# Altium footprint library SOP.PcbLib: 43 footprints (part 1 of 3)
Each footprint in its own frame and in the unit in brackets; x right, y up, seen from the top. Pads: shape width x height; smd on the part's side, far side on the other; paste and mask are expansions set on the pad; w line width, h text height; cw(c..) or ccw(c..) is an arc to the next point about the centre after c.
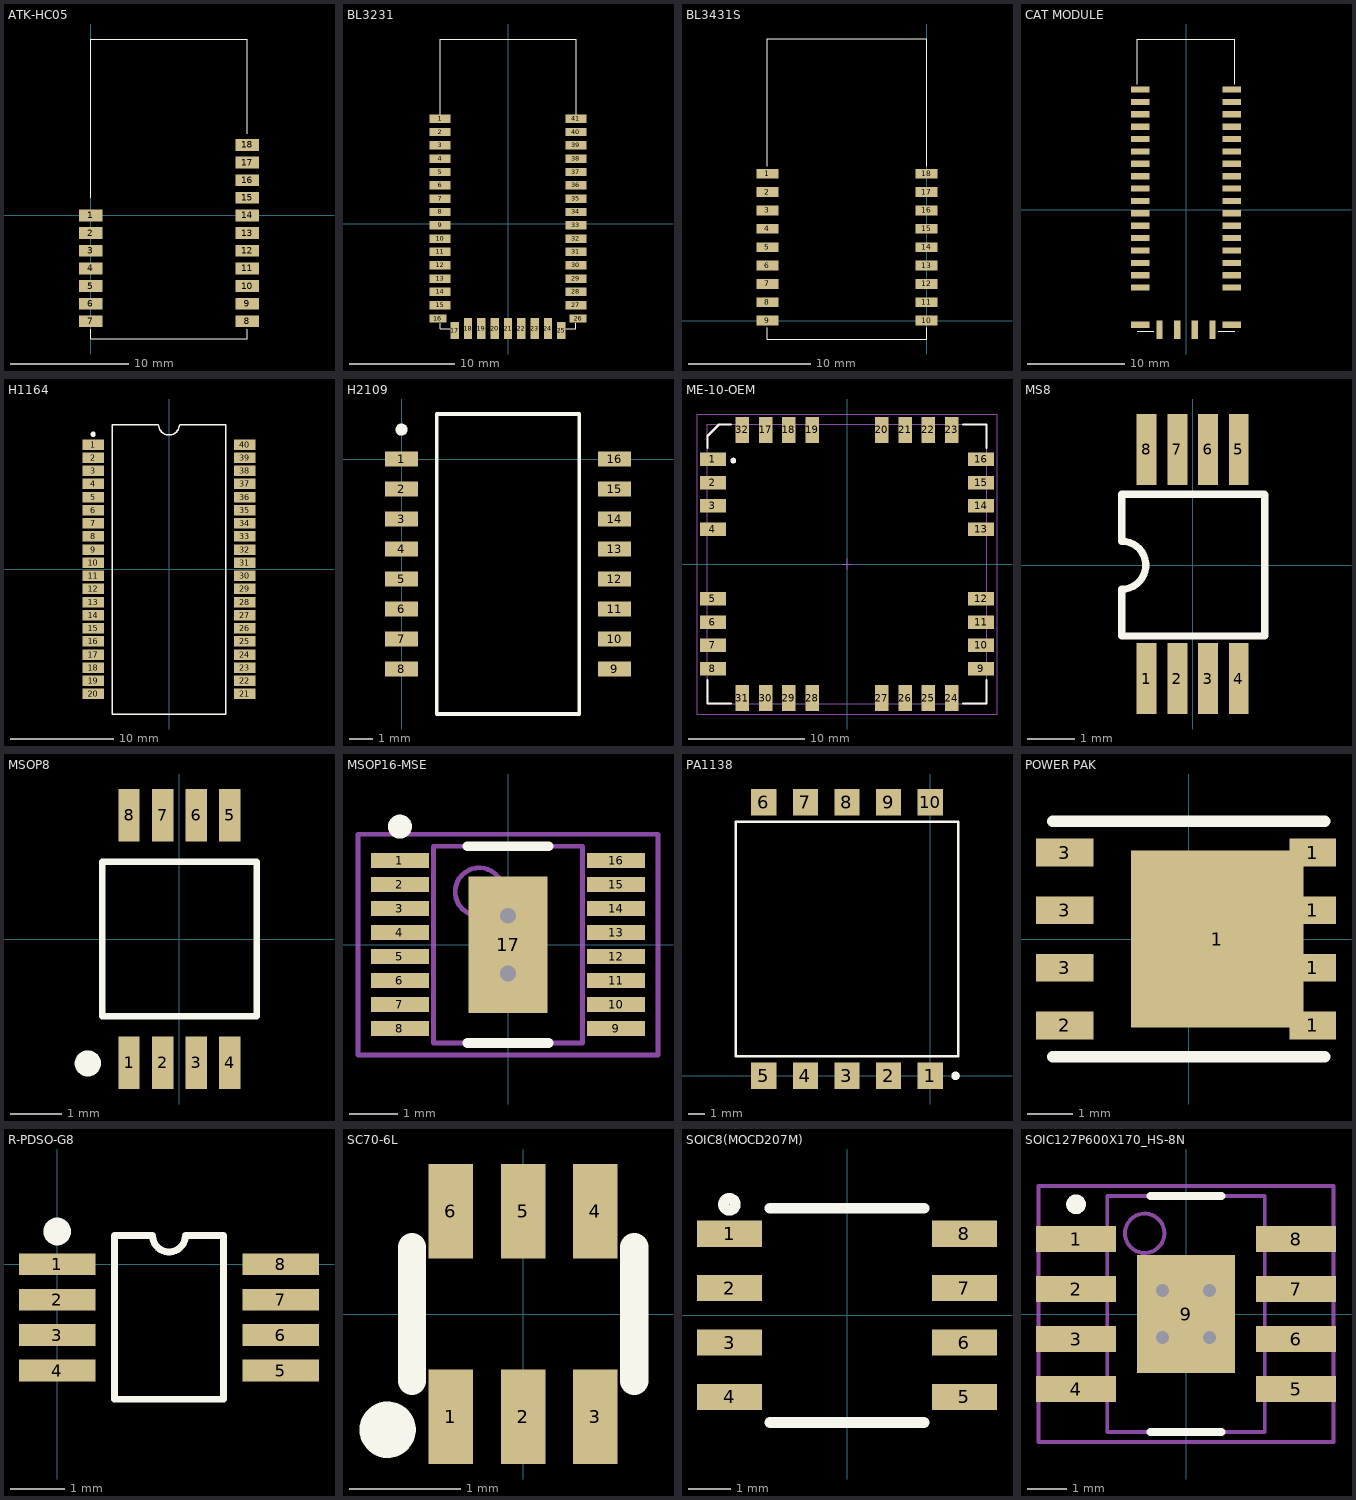
[diagram p0: the footprints below, top view; thin cyan lines are the x and y axes]

## ATK-HC05 [mm] "蓝牙转串口模块"
height 2
pads (18):
  rect 2x1 smd: 1(0,0) 2(0,-1.5) 3(0,-3) 4(0,-4.5) 5(0,-6) 6(0,-7.5) 7(0,-9) 8(13.3,-9) 9(13.3,-7.5) 10(13.3,-6) 11(13.3,-4.5) 12(13.3,-3) 13(13.3,-1.5) 14(13.3,0) 15(13.3,1.5) 16(13.3,3) 17(13.3,4.5) 18(13.3,6)
Top Overlay:
  lines w0.102: 0,-9.652 0,-10.5 13.3,-10.5 13.3,-9.652 ; 0,1.5 0,15 13.3,15 13.3,6.95

## BL3231 [mm] "蓝牙模块"
height 2
pads (41):
  rect 2x0.8 smd: 1(-6.48,10) 2(-6.48,8.73) 3(-6.48,7.46) 4(-6.48,6.19) 5(-6.48,4.92) 6(-6.48,3.65) 7(-6.48,2.38) 8(-6.48,1.11) 9(-6.48,-0.16) 10(-6.48,-1.43) 11(-6.48,-2.7) 12(-6.48,-3.97) 13(-6.48,-5.24) 14(-6.48,-6.51) 15(-6.48,-7.78) 27(6.48,-7.78) 28(6.48,-6.51) 29(6.48,-5.24) 30(6.48,-3.97) 31(6.48,-2.7) 32(6.48,-1.43) 33(6.48,-0.16) 34(6.48,1.11) 35(6.48,2.38) 36(6.48,3.65) 37(6.48,4.92) 38(6.48,6.19) 39(6.48,7.46) 40(6.48,8.73) 41(6.48,10)
  rect 1.6x0.8 smd: 16(-6.68,-9.05) 26(6.68,-9.05)
  rect 0.8x1.6 smd: 17(-5.08,-10.2) 25(5.08,-10.2)
  rect 0.8x2 smd: 18(-3.81,-10) 19(-2.54,-10) 20(-1.27,-10) 21(0,-10) 22(1.27,-10) 23(2.54,-10) 24(3.81,-10)
Top Overlay:
  lines w0.102: -6.48,-9.5 -6.48,-10 -5.5,-10 ; -6.48,10.4 -6.48,17.6 6.52,17.6 6.52,10.4 ; 5.5,-10 6.48,-10 6.48,-9.5

## BL3431S [mm] "蓝牙模块"
height 2
pads (18):
  rect 1.8x0.8 smd: 1(-13,12) 2(-13,10.5) 3(-13,9) 4(-13,7.5) 5(-13,6) 6(-13,4.5) 7(-13,3) 8(-13,1.5) 9(-13,0) 10(0,0) 11(0,1.5) 12(0,3) 13(0,4.5) 14(0,6) 15(0,7.5) 16(0,9) 17(0,10.5) 18(0,12)
Top Overlay:
  lines w0.102: -13,-0.6 -13,-1.5 0,-1.5 0,-0.6 ; -13,12.6 -13,23 0,23 0,12.6

## CAT MODULE [mil] "FOR ISS CAT MODULE"
height 78.74
pads (40):
  rect 75x25 smd: 1(184.5,-315) 2(184.5,-265) 3(184.5,-215) 4(184.5,-165) 5(184.5,-115) 6(184.5,-65) 7(184.5,-15) 8(184.5,35) 9(184.5,85) 10(184.5,135) 11(184.5,185) 12(184.5,235) 13(184.5,285) 14(184.5,335) 15(184.5,385) 16(184.5,435) 17(184.5,485) 18(-184.5,485) 19(-184.5,435) 20(-184.5,385) 21(-184.5,335) 22(-184.5,285) 23(-184.5,235) 24(-184.5,185) 25(-184.5,135) 26(-184.5,85) 27(-184.5,35) 28(-184.5,-15) 29(-184.5,-65) 30(-184.5,-115) 31(-184.5,-165) 32(-184.5,-215) 33(-184.5,-265) 34(-184.5,-315) 35(-184.5,-465) 40(184.5,-465)
  rect 25x75 smd: 36(-106.5,-485) 37(-35.5,-485) 38(35.5,-485) 39(106.5,-485)
Top Overlay:
  lines w5: -197,-491 -131,-491 ; -197,507 -197,689 197,689 197,507 ; 131,-491 197,-491

## H1164 [mil]
height 280
pads (40):
  rect 83x40 smd: 1(-288.5,475) 2(-288.5,425) 3(-288.5,375) 4(-288.5,325) 5(-288.5,275) 6(-288.5,225) 7(-288.5,175) 8(-288.5,125) 9(-288.5,75) 10(-288.5,25) 11(-288.5,-25) 12(-288.5,-75) 13(-288.5,-125) 14(-288.5,-175) 15(-288.5,-225) 16(-288.5,-275) 17(-288.5,-325) 18(-288.5,-375) 19(-288.5,-425) 20(-288.5,-475) 21(288.5,-475) 22(288.5,-425) 23(288.5,-375) 24(288.5,-325) 25(288.5,-275) 26(288.5,-225) 27(288.5,-175) 28(288.5,-125) 29(288.5,-75) 30(288.5,-25) 31(288.5,25) 32(288.5,75) 33(288.5,125) 34(288.5,175) 35(288.5,225) 36(288.5,275) 37(288.5,325) 38(288.5,375) 39(288.5,425) 40(288.5,475)
Top Overlay:
  circle w10: c-289,514 r5
  lines w5: -217,-551.18 217,-551.18 217,551.18 40,551.18 cw(c0,551.18) -40,551.18 -217,551.18 -217,-551.18

## H2109 [mil]
pads (16):
  rect 55x25 smd: 1(0,0) 2(0,-50) 3(0,-100) 4(0,-150) 5(0,-200) 6(0,-250) 7(0,-300) 8(0,-350) 9(355,-350) 10(355,-300) 11(355,-250) 12(355,-200) 13(355,-150) 14(355,-100) 15(355,-50) 16(355,0)
Top Overlay:
  circle w10: c0,49 r5
  lines w6: 58.5,-425 58.5,75 296.5,75 296.5,-425 58.5,-425
3D body: height 214.57, standoff 0, extent 60,-424 297,75

## ME-10-OEM [mm] "惯性导航模块"
height 4
pads (32):
  rect 2.25x1.15 smd: 1(-11.525,9) 2(-11.525,7) 3(-11.525,5) 4(-11.525,3) 5(-11.525,-3) 6(-11.525,-5) 7(-11.525,-7) 8(-11.525,-9) 9(11.525,-9) 10(11.525,-7) 11(11.525,-5) 12(11.525,-3) 13(11.525,3) 14(11.525,5) 15(11.525,7) 16(11.525,9)
  rect 1.15x2.25 smd: 17(-7,11.525) 18(-5,11.525) 19(-3,11.525) 20(3,11.525) 21(5,11.525) 22(7,11.525) 23(9,11.525) 24(9,-11.525) 25(7,-11.525) 26(5,-11.525) 27(3,-11.525) 28(-3,-11.525) 29(-5,-11.525) 30(-7,-11.525) 31(-9,-11.525) 32(-9,11.525)
Top Overlay:
  circle w0.25: c-9.777,8.89 r0.125
  lines w0.2: -12,-9.975 -12,-12 -9.975,-12 ; -12,9.975 -12,11 -11,12 -9.975,12 ; 9.975,-12 12,-12 12,-9.975 ; 9.975,12 12,12 12,9.975
Mechanical 13:
  lines w0.1: -12,-12 -12,12 12,12 12,-12 -12,-12
Mechanical 15:
  lines w0.1: -0.5,0 0.5,0 ; 0,-0.5 0,0.5 ; -12.9,-12.9 -12.9,12.9 12.9,12.9 12.9,-12.9 -12.9,-12.9
3D body: height 4, standoff 0, extent -12,-12 12,12

## MS8 [mm] "FOR LINEAR 0.65MM PITCH WIDE 3MM"
height 1.1
pads (8):
  rect 0.42x1.5 smd: 1(-0.975,-2.4) 2(-0.325,-2.4) 3(0.325,-2.4) 4(0.975,-2.4) 5(0.975,2.45) 6(0.325,2.45) 7(-0.325,2.45) 8(-0.975,2.45)
Top Overlay:
  lines w0.152: -1.5,-1.5 -1.5,-0.508 ccw(c-1.5,0) -1.5,0.508 -1.5,1.5 1.523,1.5 1.524,1.499 1.524,-1.5 -1.5,-1.5

## MSOP8 [mm]
pads (8):
  rect 0.41x1.02 smd: 1(-0.975,-2.4) 2(-0.325,-2.4) 3(0.325,-2.4) 4(0.975,-2.4) 5(0.975,2.4) 6(0.325,2.4) 7(-0.325,2.4) 8(-0.975,2.4)
Top Overlay:
  circle w0.254: c-1.778,-2.413 r0.127
  lines w0.127: -1.5,-1.5 1.5,-1.5 1.5,1.5 -1.5,1.5 -1.5,-1.5

## MSOP16-MSE [mm] "LINEAR MSE PACKAGE"
height 1.1
pads (17):
  rect 1.2x0.315 smd: 1(-2.25,1.75) 2(-2.25,1.25) 3(-2.25,0.75) 4(-2.25,0.25) 5(-2.25,-0.25) 6(-2.25,-0.75) 7(-2.25,-1.25) 8(-2.25,-1.75) 9(2.25,-1.75) 10(2.25,-1.25) 11(2.25,-0.75) 12(2.25,-0.25) 13(2.25,0.25) 14(2.25,0.75) 15(2.25,1.25) 16(2.25,1.75)
  rect 1.651x2.845 smd: 17(0,0)
via 0,-0.6 diameter 0.66 hole 0.33
via 0,0.6 diameter 0.66 hole 0.33
Top Overlay:
  circle w0.25: c-2.25,2.457 r0.125
  lines w0.2: -0.85,-2.05 0.85,-2.05 ; -0.85,2.05 0.85,2.05
Mechanical 13:
  circle w0.1: c-0.6,1.1 r0.5
  lines w0.1: -1.55,-2.05 1.55,-2.05 1.55,2.05 -1.55,2.05 -1.55,-2.05
Mechanical 15:
  lines w0.1: -0.5,0 0.5,0 ; 0,-0.5 0,0.5 ; -3.125,-2.3 3.125,-2.3 3.125,2.3 -3.125,2.3 -3.125,-2.3
3D body: height 1.1, standoff 0.18, extent -1.55,-2.05 1.55,2.05

## PA1138 [mm]
height 12.32
pads (10):
  rect 1.52x1.585 smd: 1(0,0) 2(-2.5,0) 3(-5,0) 4(-7.5,0) 5(-10,0) 6(-10,16.445) 7(-7.5,16.445) 8(-5,16.445) 9(-2.5,16.445) 10(0,16.445)
Top Overlay:
  circle w0.254: c1.524,0 r0.127
  lines w0.152: -11.68,1.172 1.68,1.172 1.68,15.272 -11.68,15.272 -11.68,1.172

## POWER PAK [mm] "SO-8"
height 1
pads (9):
  rect 3.81x3.91 smd: 1(0.627,0)
  rect 1.02x0.61 smd: 1(2.733,-1.905) 1(2.733,-0.635) 1(2.733,0.635) 1(2.733,1.905)
  rect 1.27x0.61 smd: 2(-2.733,-1.905) 3(-2.733,-0.635) 3(-2.733,0.635) 3(-2.733,1.905)
Top Overlay:
  lines w0.254: -3,-2.6 3,-2.6 ; -3,2.6 3,2.6

## R-PDSO-G8 [mm] "FOR TI's DCT"
height 1.3
pads (8):
  rect 1.4x0.4 smd: 1(0,0) 2(0,-0.65) 3(0,-1.3) 4(0,-1.95) 5(4.1,-1.95) 6(4.1,-1.3) 7(4.1,-0.65) 8(4.1,0)
Top Overlay:
  circle w0.254: c0,0.6 r0.127
  lines w0.127: 1.05,-2.475 1.05,0.525 1.75,0.525 ccw(c2.05,0.525) 2.35,0.525 3.05,0.525 3.05,-2.475 1.05,-2.475

## SC70-6L [mm]
height 1.1
pads (6):
  rect 0.4x0.85 smd: 1(-0.65,-0.925) 2(0,-0.925) 3(0.65,-0.925) 4(0.65,0.925) 5(0,0.925) 6(-0.65,0.925)
Top Overlay:
  circle w0.254: c-1.219,-1.041 r0.127
  lines w0.254: -1,-0.6 -1,0.6 ; 1,-0.6 1,0.6

## SOIC8(MOCD207M) [mm]
height 3.63
pads (8):
  rect 1.52x0.61 smd: 1(-2.74,1.905) 2(-2.74,0.635) 3(-2.74,-0.635) 4(-2.74,-1.905) 5(2.74,-1.905) 6(2.74,-0.635) 7(2.74,0.635) 8(2.74,1.905)
Top Overlay:
  circle w0.254: c-2.743,2.591 r0.137
  lines w0.254: -1.8,-2.5 1.8,-2.5 ; -1.8,2.5 1.8,2.5

## SOIC127P600X170_HS-8N [mil] "SOIC, 8-Leads, Body 6.0x4.0mm (max), Pitch 1.27mm, IPC Medium Density"
height 66.93
pads (9):
  rect 80x26 smd: 1(-110,75) 2(-110,25) 3(-110,-25) 4(-110,-75) 5(110,-75) 6(110,-25) 7(110,25) 8(110,75)
  rect 98x118 smd: 9(0,0)
via -23.62,23.62 diameter 25.98 hole 12.99
via 23.62,23.62 diameter 25.98 hole 12.99
via -23.62,-23.62 diameter 25.98 hole 12.99
via 23.62,-23.62 diameter 25.98 hole 12.99
Top Overlay:
  circle w9.84: c-110,109.65 r4.92
  lines w7.87: -35.43,-118.11 35.43,-118.11 ; -35.43,118.11 35.43,118.11
Mechanical 13:
  circle w3.94: c-41.34,80.71 r19.68
  lines w3.94: -78.74,-118.11 -78.74,118.11 78.74,118.11 78.74,-118.11 -78.74,-118.11
Mechanical 15:
  lines w3.94: -19.68,0 19.68,0 ; 0,-19.68 0,19.68 ; -147.64,-127.95 -147.64,127.95 147.64,127.95 147.64,-127.95 -147.64,-127.95
3D body: height 66.93, standoff 3.94, extent -78.74,-118.11 78.74,118.11